# EAGLE library part MAX11208AEUB+ (library MAX11208)
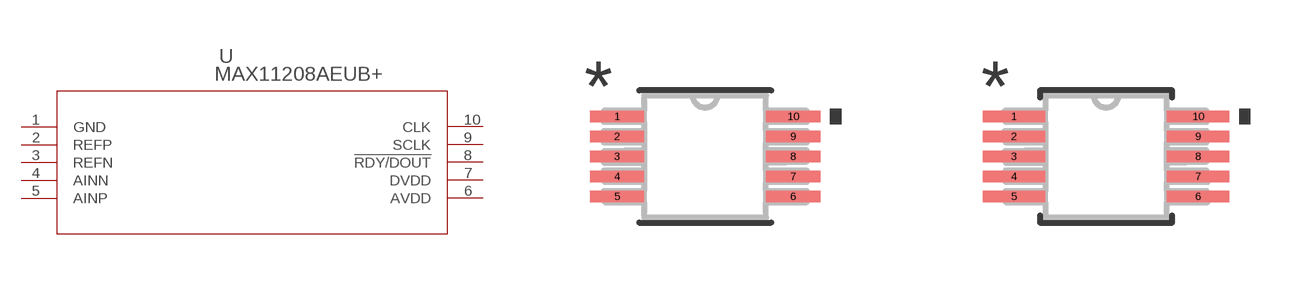
[diagram p0: symbol with the pads of 21-0061L_MXM; footprints 21-0061L_MXM, 21-0061L_MXM-M]

Designator prefix U

## MAX11208AEUB+ (COPYRIGHT: Copyright (C) 2023 Ultra Librarian. All rights reserved.; MANUFACTURER_PART_NUMBER: MAX11208AEUB+; MFR_NAME: Analog Devices Inc)  [21-0061L_MXM]
1  GND  pwr
2  REFP
3  REFN
4  AINN
5  AINP
6  AVDD  pwr
7  DVDD  pwr
8  !RDY/DOUT
9  SCLK
10  CLK

## MAX11208AEUB+21-0061L_MXM-M (COPYRIGHT: Copyright (C) 2023 Ultra Librarian. All rights reserved.; MANUFACTURER_PART_NUMBER: MAX11208AEUB+; MFR_NAME: Analog Devices Inc)  [21-0061L_MXM-M]
Pads as for 21-0061L_MXM

## MAX11208AEUB+21-0061L_MXM-L (COPYRIGHT: Copyright (C) 2023 Ultra Librarian. All rights reserved.; MANUFACTURER_PART_NUMBER: MAX11208AEUB+; MFR_NAME: Analog Devices Inc)  [21-0061L_MXM-L]
Pads as for 21-0061L_MXM

## Footprint 21-0061L_MXM (pad centres in mm)
smd 1.359 x 0.279: 1 -2.203,1; 2 -2.203,0.5; 3 -2.203,0; 4 -2.203,-0.5; 5 -2.203,-1; 6 2.203,-1; 7 2.203,-0.5; 8 2.203,0; 9 2.203,0.5; 10 2.203,1

## Footprint 21-0061L_MXM-M (pad centres in mm)
smd 1.562 x 0.279: 1 -2.305,1; 2 -2.305,0.5; 3 -2.305,0; 4 -2.305,-0.5; 5 -2.305,-1; 6 2.305,-1; 7 2.305,-0.5; 8 2.305,0; 9 2.305,0.5; 10 2.305,1

## Footprint 21-0061L_MXM-L (pad centres in mm)
smd 1.118 x 0.229: 1 -2.121,1; 2 -2.121,0.5; 3 -2.121,0; 4 -2.121,-0.5; 5 -2.121,-1; 6 2.121,-1; 7 2.121,-0.5; 8 2.121,0; 9 2.121,0.5; 10 2.121,1